# EAGLE library part MP5515 (library ruark2)
Wide Input 2.7 - 18V, 5A, High-Efficiency Bidirectional, Power Back-Up Manager with Integrated Hot-Swap, I2C, ADC, and Cap Health Test
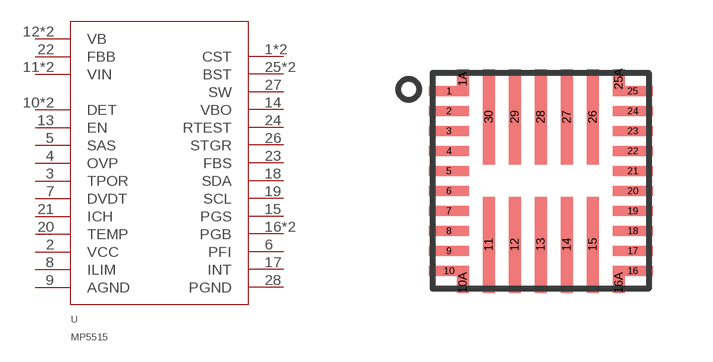
[diagram p163: symbol with the pads of MP5515; footprint MP5515]

Designator prefix U

## MP5515  [MP5515]
1  CST
1A  CST
2  VCC
3  TPOR
4  OVP
5  SAS
6  PFI
7  DVDT
8  ILIM
9  AGND
10  DET
10A  DET
11  VIN
12  VB
13  EN
14  VBO
15  PGS
16  PGB
16A  PGB
17  INT
18  SDA
19  SCL
20  TEMP
21  ICH
22  FBB
23  FBS
24  RTEST
25  BST
25A  BST
26  STGR
27  SW
28  PGND
29  VB
30  VIN

## Footprint MP5515 (pad centres in mm)
smd 1 x 0.25: 1 -2.3,2.25; 2 -2.3,1.75; 3 -2.3,1.25; 4 -2.3,0.75; 5 -2.3,0.25; 6 -2.3,-0.25; 7 -2.3,-0.75; 8 -2.3,-1.25; 9 -2.3,-1.75; 10 -2.3,-2.25; 16 2.3,-2.25; 17 2.3,-1.75; 18 2.3,-1.25; 19 2.3,-0.75; 20 2.3,-0.25; 21 2.3,0.25; 22 2.3,0.75; 23 2.3,1.25; 24 2.3,1.75; 25 2.3,2.25
smd 0.3 x 0.5: 1A -1.95,2.55; 10A -1.95,-2.55; 16A 1.95,-2.55; 25A 1.95,2.55
smd 0.3 x 2.4: 11 -1.3,-1.6; 12 -0.65,-1.6; 13 0,-1.6; 14 0.65,-1.6; 15 1.3,-1.6; 26 1.3,1.6; 27 0.65,1.6; 28 0,1.6; 29 -0.65,1.6; 30 -1.3,1.6